# EAGLE library part MOLEX_53047-06 (library added_parts)
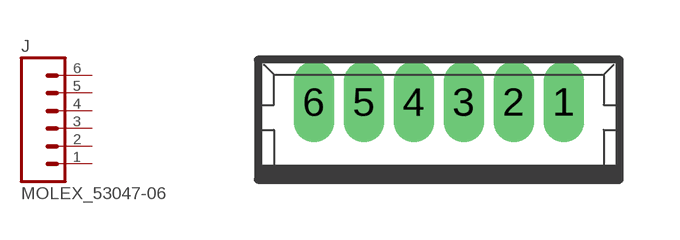
[diagram p12: symbol with the pads of MOLEX_53047-06; footprint MOLEX_53047-06]

Designator prefix J

## MOLEX_53047-06  [MOLEX_53047-06]
1  1  pas
2  2  pas
3  3  pas
4  4  pas
5  5  pas
6  6  pas

## Footprint MOLEX_53047-06 (pad centres in mm)
drill 0.5 pad 0.698 long: 1 3.115,0; 2 1.865,0; 3 0.615,0; 4 -0.635,0; 5 -1.885,0; 6 -3.135,0